# Altium footprint library TSOP6_SC74_SOT457.PcbLib: 1 footprints
Each footprint in its own frame and in the unit in brackets; x right, y up, seen from the top. Pads: shape width x height; smd on the part's side, far side on the other; paste and mask are expansions set on the pad; w line width, h text height; cw(c..) or ccw(c..) is an arc to the next point about the centre after c.
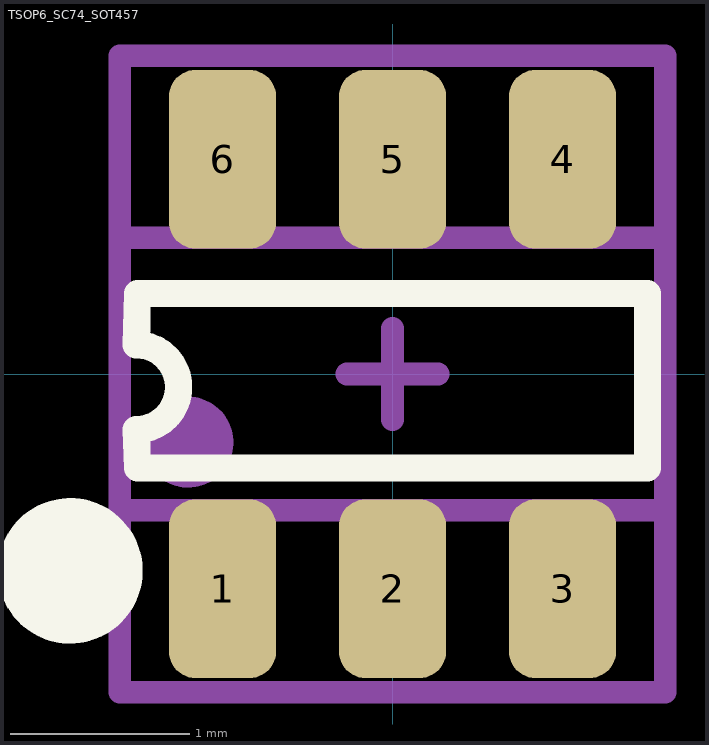
[diagram p0: the footprint, top view; thin cyan lines are the x and y axes]

## TSOP6_SC74_SOT457 [mm]
pads (6):
  rrect50% 0.6x1 smd: 1(-0.95,-1.2) 2(0,-1.2) 3(0.95,-1.2) 4(0.95,1.2) 5(0,1.2) 6(-0.95,1.2)
Top Overlay:
  circle w0.508: c-1.802,-1.1 r0.152
  lines w0.152: -1.433,-0.311 ccw(c-1.433,-0.074) -1.433,0.164 -1.425,0.45 1.425,0.45 1.425,-0.525 -1.425,-0.525 -1.433,-0.311
Top Assembly:
  circle w0.254: c-1.143,-0.381 r0.127
  lines w0.127: -1.524,-0.762 -1.524,0.762 1.524,0.762 1.524,-0.762 -1.524,-0.762
Top Courtyard:
  lines w0.127: -0.254,0 0.254,0 ; 0,-0.254 0,0.254 ; -1.524,-1.778 1.524,-1.778 1.524,1.778 -1.524,1.778 -1.524,-1.778
3D body "TSOP6.step": height 1, standoff 0, extent -1.51,-1.356 1.49,1.344